# EAGLE library part HMC920 (library rf-jqi)
RF Amp Active Bias Controller, Idd = 500 mA, Vdd = -2.5 V
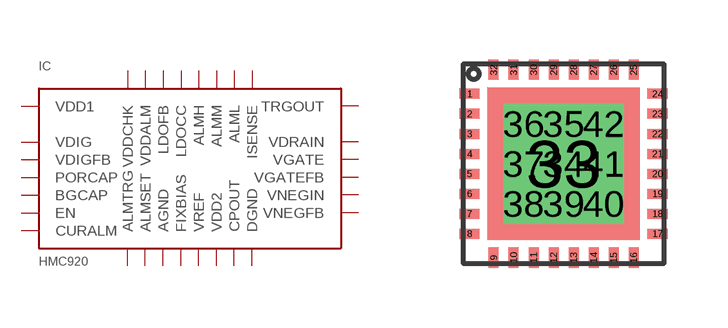
[diagram p17: symbol with the pads of HMC920; footprint HMC920]

Designator prefix IC

## HMC920  [HMC920]
1  VDD1
2  VDD1
3  VDIG
4  VDIGFB
5  PORCAP
6  BGCAP
7  EN
8  CURALM
9  ALMTRG
10  ALMSET
11  AGND
12  FIXBIAS
13  VREF
14  VDD2
15  CPOUT
16  DGND
17  AGND
18  VNEGFB
19  VNEGIN
20  VGATEFB
21  VGATE
22  VDRAIN
23  VDRAIN
24  TRGOUT
25  ISENSE
26  ALML
27  ALMM
28  ALMH
29  LDOCC
30  LDOFB
31  VDDALM
32  VDDCHK
33  AGND
34  AGND
35  AGND
36  AGND
37  AGND
38  AGND
39  AGND
40  AGND
41  AGND
42  AGND

## Footprint HMC920 (pad centres in mm)
smd 0.5 x 0.25: 1 -2.35,1.75; 2 -2.35,1.25; 3 -2.35,0.75; 4 -2.35,0.25; 5 -2.35,-0.25; 6 -2.35,-0.75; 7 -2.35,-1.25; 8 -2.35,-1.75; 17 2.35,-1.75; 18 2.35,-1.25; 19 2.35,-0.75; 20 2.35,-0.25; 21 2.35,0.25; 22 2.35,0.75; 23 2.35,1.25; 24 2.35,1.75
smd 0.25 x 0.5: 9 -1.75,-2.35; 10 -1.25,-2.35; 11 -0.75,-2.35; 12 -0.25,-2.35; 13 0.25,-2.35; 14 0.75,-2.35; 15 1.25,-2.35; 16 1.75,-2.35; 25 1.75,2.35; 26 1.25,2.35; 27 0.75,2.35; 28 0.25,2.35; 29 -0.25,2.35; 30 -0.75,2.35; 31 -1.25,2.35; 32 -1.75,2.35
smd 3.8 x 3.8: 33 0,0
drill 0.305 pad 1 square: 34 0,0; 35 0,1; 36 -1,1; 37 -1,0; 38 -1,-1; 39 0,-1; 40 1,-1; 41 1,0; 42 1,1